# EAGLE library part SWITCH-DIP-8X-SMD (library switches)
8 x SPST Dip Switch Digi-Key Part Number 1-1825058-9-ND
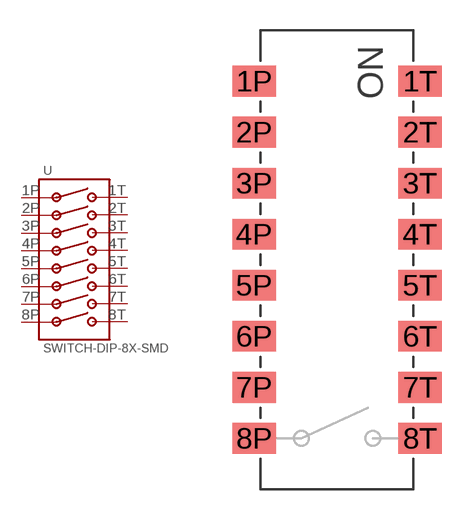
[diagram p0: symbol with the pads of DIP_8X_SMD; footprint DIP_8X_SMD]

Designator prefix -

## SWITCH-DIP-8X-SMD (DIGIKEY: 1-1825058-9-ND)  [DIP_8X_SMD]
1P  1P
1T  1T
2P  2P
2T  2T
3P  3P
3T  3T
4P  4P
4T  4T
5P  5P
5T  5T
6P  6P
6T  6T
7P  7P
7T  7T
8P  8P
8T  8T

## Footprint DIP_8X_SMD (pad centres in mm)
smd 2.159 x 1.524: 1P -4.128,8.89; 1T 4.128,8.89; 2P -4.128,6.35; 2T 4.128,6.35; 3P -4.128,3.81; 3T 4.128,3.81; 4P -4.128,1.27; 4T 4.128,1.27; 5P -4.128,-1.27; 5T 4.128,-1.27; 6P -4.128,-3.81; 6T 4.128,-3.81; 7P -4.128,-6.35; 7T 4.128,-6.35; 8P -4.128,-8.89; 8T 4.128,-8.89